# Altium schematic symbol library Schlib1.SchLib: 21 symbols
Pins are listed as number, name and electrical type; pins without a type are passive.

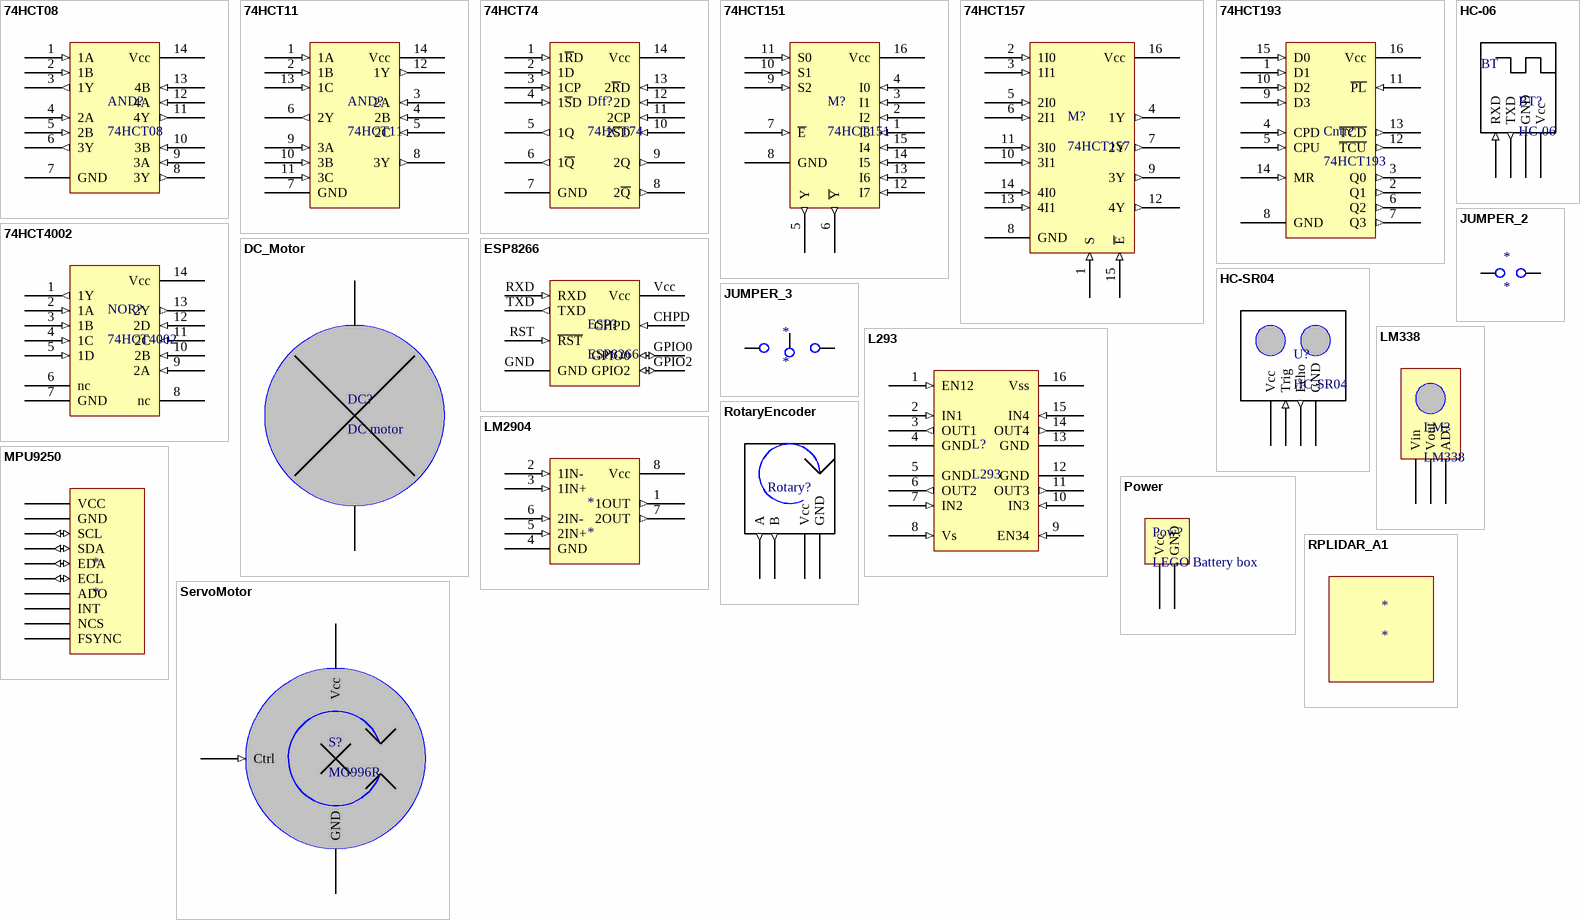
[diagram p0: symbols 74HCT08 to ServoMotor]

## 74HCT08
designator AND?
Quadruple 2-input AND gate; Name: 74HCT08 quadruple 2-input AND gate; Supplier: Lomex; Reference: 87-02-92
footprint SOIC127P600X175-14N (SOIC, 14-Leads, Body 8.65x3.90mm, Pitch 1.27mm, IPC Medium Density)
pins: 1 1A (in), 2 1B (in), 3 1Y (out), 4 2A (in), 5 2B (in), 6 3Y (out), 7 GND (power), 8 3Y (out), 9 3A (in), 10 3B (in), 11 4Y (out), 12 4A (in), 13 4B (in), 14 Vcc (power)

## 74HCT11
designator AND?
Triple 3-input AND gate; Name: 74HCT11 triple 1 3-input AND gate; Supplier: Lomex; Reference: 87-02-21
footprint DIP14
footprint SO14
pins: 1 1A (in), 2 1B (in), 3 2A (in), 4 2B (in), 5 2C (in), 6 2Y (out), 7 GND (power), 8 3Y (out), 9 3A (in), 10 3B (in), 11 3C (in), 12 1Y (out), 13 1C (in), 14 Vcc (power)

## 74HCT74
designator Dff?
Dual D-type flip-flop
footprint DIP14
footprint SO14
pins: 1 1~{R}D (in), 2 1D (in), 3 1CP (in), 4 1~{S}D (in), 5 1Q (out), 6 1~{Q} (out), 7 GND (power), 8 2~{Q} (out), 9 2Q (out), 10 2~{S}D (in), 11 2CP (in), 12 2D (in), 13 2~{R}D (in), 14 Vcc (power)

## 74HCT151
designator M?
8:1 multiplexer; Name: 74HCT151 8:1 multiplexer; Supplier: Lomex; Reference: 87-06-33
footprint SO16
pins: 1 I3 (in), 2 I2 (in), 3 I1 (in), 4 I0 (in), 5 Y (out), 6 ~{Y} (out), 7 ~{E} (in), 8 GND (power), 9 S2 (in), 10 S1 (in), 11 S0 (in), 12 I7 (in), 13 I6 (in), 14 I5 (in), 15 I4 (in), 16 Vcc (power)

## 74HCT157
designator M?
Quad 2:1 multiplexer; Name: 74HCT157 Quad 2:1 multiplexer; Supplier: Lomex; Reference: 87-06-30
footprint SO16
pins: 1 S (in), 2 1I0 (in), 3 1I1 (in), 4 1Y (out), 5 2I0 (in), 6 2I1 (in), 7 2Y (out), 8 GND (power), 9 3Y (out), 10 3I1 (in), 11 3I0 (in), 12 4Y (out), 13 4I1 (in), 14 4I0 (in), 15 ~{E} (in), 16 Vcc (power)

## 74HCT193
designator Cntr?
4-bit synchronous binary up/down counter; Name: 74HCT193 4-bit synchronous binary up/down counter; Supplier: Lomex; Reference: 30-03-27
footprint DIP16
footprint SO16
pins: 1 D1 (in), 2 Q1 (out), 3 Q0 (out), 4 CPD (in), 5 CPU (in), 6 Q2 (out), 7 Q3 (out), 8 GND (power), 9 D3 (in), 10 D2 (in), 11 ~{PL} (in), 12 ~{TCU} (out), 13 ~{TCD} (out), 14 MR (in), 15 D0 (in), 16 Vcc (power)

## 74HCT4002
designator NOR?
Dual 4-input NOR gate; Name: 74HCT4002 Dual 4-input NOR-gate; Supplier: Lomex; Reference: 30-05-58
footprint DIP14
footprint SO14
pins: 1 1Y (out), 2 1A (in), 3 1B (in), 4 1C (in), 5 1D (in), 6 nc, 7 GND (power), 8 nc, 9 2A (in), 10 2B (in), 11 2C (in), 12 2D (in), 13 2Y (out), 14 Vcc (power)

## DC_Motor
designator DC?, comment DC motor
LEGO Power Functions XL motor; Reference: 8882; Name: LEGO Power Functions XL motor; Supplier: LEGO
footprint DC_motor
pins: 1, 2

## ESP8266
designator ESP?
WiFi module; Name: ESP8266 WiFi module; Reference: 311736436700; Supplier: eBay
footprint ESP8266
pins: CHPD (in), GND (power), GPIO0 (io), GPIO2 (io), RST ~{RST} (in), RXD (in), TXD (out), Vcc (power)

## HC-06
designator BT?
Bluetooth module; Name: HC-06 Bluetooth module; Reference: 301894804387; Supplier: eBay
footprint HC-06
pins: GND (power), RXD (in), TXD (out), Vcc (power)
text: BT

## HC-SR04
designator U?
HC-SR04 ultrasonic sensor; Reference: 141975951132; Name: HC-SR04 ultrasonic sensor; Supplier: eBay
footprint Ultrasonic
pins: Echo (out), GND (power), Trig (in), Vcc (power)

## JUMPER_2
designator *
footprint JUMPER_2
pins: 1 C1, 2 C2

## JUMPER_3
designator *
footprint JUMPER_3
pins: 1 C1, 2 Cmid, 3 C2

## L293
designator L?
Motor driver; Name: L293 motor driver; Reference: 1470423; Supplier: Farnell
footprint DIP16
pins: 1 EN12 (in), 2 IN1 (in), 3 OUT1 (out), 4 GND (power), 5 GND (power), 6 OUT2 (out), 7 IN2 (in), 8 Vs (in), 9 EN34 (in), 10 IN3 (in), 11 OUT3 (out), 12 GND (power), 13 GND (power), 14 OUT4 (out), 15 IN4 (in), 16 Vss (power)

## LM338
designator LM?
Voltage regulator; Name: LM338 Voltage regulator; Supplier: Lomex; Reference: 32-04-33
footprint LM338 (LM338 Voltage regulator)
pins: ADJ, Vin, Vout

## LM2904
designator *
2-channel Operational amplifier; Name: LM2904 2-channel Operational amplifier
footprint DIP8
pins: 1 1OUT (out), 2 1IN- (in), 3 1IN+ (in), 4 GND (power), 5 2IN+ (in), 6 2IN- (in), 7 2OUT (out), 8 Vcc (power)

## MPU9250
designator *
footprint MPU9250
pins: ADO, ECL (io), EDA (io), FSYNC, GND (power), INT, NCS, SCL (io), SDA (io), VCC (power)

## Power
designator Pow?, comment LEGO Battery box
Reference: 8881; Name: LEGO Battery box; Supplier: LEGO
footprint Power
pins: GND (power), Vcc (power)

## RotaryEncoder
designator Rotary?
Rotary encoder; Reference: 221964724695; Name: Rotary encoder; Supplier: eBay
footprint RotaryEncoder
pins: A (out), B (out), GND (power), Vcc (power)

## RPLIDAR_A1
designator *

## ServoMotor
designator S?, comment MG996R
Servo motor; Name: MG996R servo motor; Reference: 201606181242; Supplier: eBay
footprint Servo_motor
pins: Ctrl (in), GND, Vcc (power)